# Altium schematic symbol library NRF24L01P.Schlib: 1 symbol
Pins are listed as number, name and electrical type; pins without a type are passive.

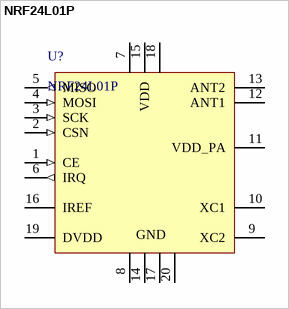
[diagram p0: symbol NRF24L01P]

## NRF24L01P
designator U?
IC RF TxRx Only General ISM > 1GHZ  2.4GHz 20-VFQFN Exposed Pad
pins: 1 CE (in), 2 CSN (in), 3 SCK (in), 4 MOSI (in), 5 MISO (out), 6 IRQ (out), 7 VDD (power), 8 GND (power), 9 XC2, 10 XC1, 11 VDD_PA, 12 ANT1, 13 ANT2, 14 GND (power), 15 VDD (power), 16 IREF, 17 GND (power), 18 VDD (power), 19 DVDD, 20 GND (power)